# Altium schematic symbol library Power_Management.SchLib: 218 symbols (part 3 of 3)
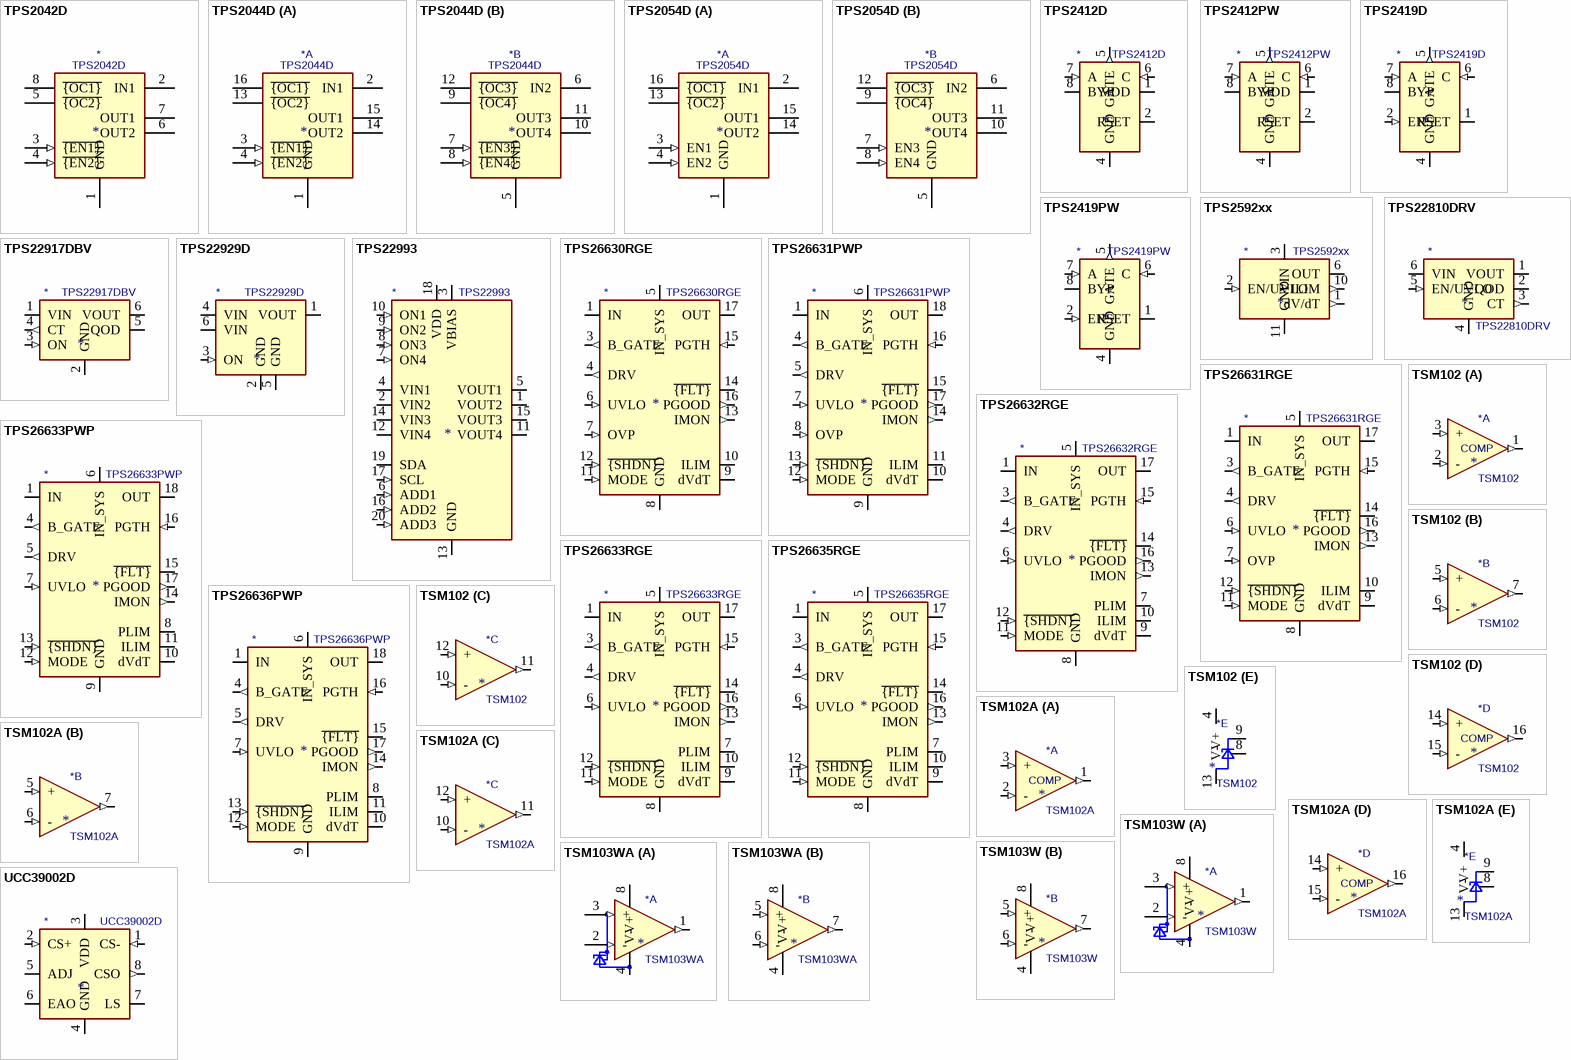
[diagram p7: symbols TPS2042D to UCC39002D]

## TPS26630RGE
designator *  value TPS26630RGE
ki_keywords: efuse protection switch; ki_description: 60V, 6A Power Limiting, Surge Protection Industrial eFuse, Adjustable Overvoltage cut-off, Active Current Limiting, VQFN-24; ki_fp_filters: Texas?RGE0024H*; Footprint: Package_DFN_QFN:Texas_RGE0024H_EP2.7x2.7mm_ThermalVias; Supplier: https://www.ti.com/lit/ds/symlink/tps2663.pdf
footprint Texas_RGE0024H_EP2.7x2.7mm_ThermalVias
pins: 1 IN (power), 2 IN hidden, 3 B_GATE (out), 4 DRV (out), 5 IN_SYS (power), 6 UVLO (in), 7 OVP (in), 8 GND (power), 9 dVdT, 10 ILIM, 11 MODE (in), 12 ~{{SHDN}} (in), 13 IMON (out), 14 ~{{FLT}} (oc), 15 PGTH (in), 16 PGOOD (out), 17 OUT (power), 18 OUT hidden, 19 NC (in) hidden, 20 NC (in) hidden, 21 NC (in) hidden, 22 NC (in) hidden, 23 NC (in) hidden, 24 NC (in) hidden, 25 GND hidden

## TPS26631PWP
designator *  value TPS26631PWP
ki_keywords: efuse protection switch; ki_description: 60V, 6A Power Limiting, Surge Protection Industrial eFuse, Adjustable Overvoltage cut-off, Active Current Limiting with Pulse current support, HTTSOP-20; ki_fp_filters: HTSSOP*1EP*4.4x6.5mm*P0.65mm*; Footprint: Package_SO:HTSSOP-20-1EP_4.4x6.5mm_P0.65mm_EP3.4x6.5mm_Mask2.96x2.96mm_ThermalVias; Supplier: https://www.ti.com/lit/ds/symlink/tps2663.pdf
footprint HTSSOP-20-1EP_4.4x6.5mm_P0.65mm_EP3.4x6.5mm_Mask2.96x2.96mm_ThermalVias
pins: 1 IN (power), 2 IN hidden, 3 IN hidden, 4 B_GATE (out), 5 DRV (out), 6 IN_SYS (power), 7 UVLO (in), 8 OVP (in), 9 GND (power), 10 dVdT, 11 ILIM, 12 MODE (in), 13 ~{{SHDN}} (in), 14 IMON (out), 15 ~{{FLT}} (oc), 16 PGTH (in), 17 PGOOD (out), 18 OUT (power), 19 OUT hidden, 20 OUT hidden, 21 GND hidden

## TPS26631RGE
designator *  value TPS26631RGE
ki_keywords: efuse protection switch; ki_description: 60V, 6A Power Limiting, Surge Protection Industrial eFuse, Adjustable Overvoltage cut-off, Active Current Limiting with Pulse current support, VQFN-24; ki_fp_filters: Texas?RGE0024H*; Footprint: Package_DFN_QFN:Texas_RGE0024H_EP2.7x2.7mm_ThermalVias; Supplier: https://www.ti.com/lit/ds/symlink/tps2663.pdf
footprint Texas_RGE0024H_EP2.7x2.7mm_ThermalVias
pins: 1 IN (power), 2 IN hidden, 3 B_GATE (out), 4 DRV (out), 5 IN_SYS (power), 6 UVLO (in), 7 OVP (in), 8 GND (power), 9 dVdT, 10 ILIM, 11 MODE (in), 12 ~{{SHDN}} (in), 13 IMON (out), 14 ~{{FLT}} (oc), 15 PGTH (in), 16 PGOOD (out), 17 OUT (power), 18 OUT hidden, 19 NC (in) hidden, 20 NC (in) hidden, 21 NC (in) hidden, 22 NC (in) hidden, 23 NC (in) hidden, 24 NC (in) hidden, 25 GND hidden

## TPS26632RGE
designator *  value TPS26632RGE
ki_keywords: efuse protection switch; ki_description: 60V, 6A Power Limiting, Surge Protection Industrial eFuse, 35V fixed Overvoltage clamp, Active Current Limiting, VQFN-24; ki_fp_filters: Texas?RGE0024H*; Footprint: Package_DFN_QFN:Texas_RGE0024H_EP2.7x2.7mm_ThermalVias; Supplier: https://www.ti.com/lit/ds/symlink/tps2663.pdf
footprint Texas_RGE0024H_EP2.7x2.7mm_ThermalVias
pins: 1 IN (power), 2 IN hidden, 3 B_GATE (out), 4 DRV (out), 5 IN_SYS (power), 6 UVLO (in), 7 PLIM, 8 GND (power), 9 dVdT, 10 ILIM, 11 MODE (in), 12 ~{{SHDN}} (in), 13 IMON (out), 14 ~{{FLT}} (oc), 15 PGTH (in), 16 PGOOD (out), 17 OUT (power), 18 OUT hidden, 19 NC (in) hidden, 20 NC (in) hidden, 21 NC (in) hidden, 22 NC (in) hidden, 23 NC (in) hidden, 24 NC (in) hidden, 25 GND hidden

## TPS26633PWP
designator *  value TPS26633PWP
ki_keywords: efuse protection switch; ki_description: 60V, 6A Power Limiting, Surge Protection Industrial eFuse, 35V fixed Overvoltage clamp, Active Current Limiting with Pulse current support, HTTSOP-20; ki_fp_filters: HTSSOP*1EP*4.4x6.5mm*P0.65mm*; Footprint: Package_SO:HTSSOP-20-1EP_4.4x6.5mm_P0.65mm_EP3.4x6.5mm_Mask2.96x2.96mm_ThermalVias; Supplier: https://www.ti.com/lit/ds/symlink/tps2663.pdf
footprint HTSSOP-20-1EP_4.4x6.5mm_P0.65mm_EP3.4x6.5mm_Mask2.96x2.96mm_ThermalVias
pins: 1 IN (power), 2 IN hidden, 3 IN hidden, 4 B_GATE (out), 5 DRV (out), 6 IN_SYS (power), 7 UVLO (in), 8 PLIM, 9 GND (power), 10 dVdT, 11 ILIM, 12 MODE (in), 13 ~{{SHDN}} (in), 14 IMON (out), 15 ~{{FLT}} (oc), 16 PGTH (in), 17 PGOOD (out), 18 OUT (power), 19 OUT hidden, 20 OUT hidden, 21 GND hidden

## TPS26633RGE
designator *  value TPS26633RGE
ki_keywords: efuse protection switch; ki_description: 60V, 6A Power Limiting, Surge Protection Industrial eFuse, 35V fixed Overvoltage clamp, Active Current Limiting with Pulse current support, VQFN-24; ki_fp_filters: Texas?RGE0024H*; Footprint: Package_DFN_QFN:Texas_RGE0024H_EP2.7x2.7mm_ThermalVias; Supplier: https://www.ti.com/lit/ds/symlink/tps2663.pdf
footprint Texas_RGE0024H_EP2.7x2.7mm_ThermalVias
pins: 1 IN (power), 2 IN hidden, 3 B_GATE (out), 4 DRV (out), 5 IN_SYS (power), 6 UVLO (in), 7 PLIM, 8 GND (power), 9 dVdT, 10 ILIM, 11 MODE (in), 12 ~{{SHDN}} (in), 13 IMON (out), 14 ~{{FLT}} (oc), 15 PGTH (in), 16 PGOOD (out), 17 OUT (power), 18 OUT hidden, 19 NC (in) hidden, 20 NC (in) hidden, 21 NC (in) hidden, 22 NC (in) hidden, 23 NC (in) hidden, 24 NC (in) hidden, 25 GND hidden

## TPS26635RGE
designator *  value TPS26635RGE
ki_keywords: efuse protection switch; ki_description: 60V, 6A Power Limiting, Surge Protection Industrial eFuse, 39V fixed Overvoltage clamp, Active Current Limiting with Pulse current support, VQFN-24; ki_fp_filters: Texas?RGE0024H*; Footprint: Package_DFN_QFN:Texas_RGE0024H_EP2.7x2.7mm_ThermalVias; Supplier: https://www.ti.com/lit/ds/symlink/tps2663.pdf
footprint Texas_RGE0024H_EP2.7x2.7mm_ThermalVias
pins: 1 IN (power), 2 IN hidden, 3 B_GATE (out), 4 DRV (out), 5 IN_SYS (power), 6 UVLO (in), 7 PLIM, 8 GND (power), 9 dVdT, 10 ILIM, 11 MODE (in), 12 ~{{SHDN}} (in), 13 IMON (out), 14 ~{{FLT}} (oc), 15 PGTH (in), 16 PGOOD (out), 17 OUT (power), 18 OUT hidden, 19 NC (in) hidden, 20 NC (in) hidden, 21 NC (in) hidden, 22 NC (in) hidden, 23 NC (in) hidden, 24 NC (in) hidden, 25 GND hidden

## TPS26636PWP
designator *  value TPS26636PWP
ki_keywords: efuse protection switch; ki_description: 60V, 6A Power Limiting, Surge Protection Industrial eFuse, 35V fixed Overvoltage clamp, Active Current Limiting with Pulse current support, HTTSOP-20; ki_fp_filters: HTSSOP*1EP*4.4x6.5mm*P0.65mm*; Footprint: Package_SO:HTSSOP-20-1EP_4.4x6.5mm_P0.65mm_EP3.4x6.5mm_Mask2.96x2.96mm_ThermalVias; Supplier: https://www.ti.com/lit/ds/symlink/tps2663.pdf
footprint HTSSOP-20-1EP_4.4x6.5mm_P0.65mm_EP3.4x6.5mm_Mask2.96x2.96mm_ThermalVias
pins: 1 IN (power), 2 IN hidden, 3 IN hidden, 4 B_GATE (out), 5 DRV (out), 6 IN_SYS (power), 7 UVLO (in), 8 PLIM, 9 GND (power), 10 dVdT, 11 ILIM, 12 MODE (in), 13 ~{{SHDN}} (in), 14 IMON (out), 15 ~{{FLT}} (oc), 16 PGTH (in), 17 PGOOD (out), 18 OUT (power), 19 OUT hidden, 20 OUT hidden, 21 GND hidden

## TSM102
designator *  value TSM102
ki_keywords: dual opamp comparator reference; ki_description: Dual Operational Amplifier and Dual Comparator and 1% Voltage Reference, SOIC-16; ki_fp_filters: SOIC*3.9x9.9mm*P1.27mm*; Footprint: Package_SO:SOIC-16_3.9x9.9mm_P1.27mm; Supplier: http://www.st.com/resource/en/datasheet/tsm102.pdf
footprint SOIC-16_3.9x9.9mm_P1.27mm
part A pins: 1 (out), 2 - (in), 3 + (in)
part B pins: 5 + (in), 6 - (in), 7 (out)
part C pins: 10 - (in), 11 (out), 12 + (in)
part D pins: 14 + (in), 15 - (in), 16 (out)
part E pins: 4 V+ (power), 8, 9, 13 V- (power)
part A text: COMP
part D text: COMP

## TSM102A
designator *  value TSM102A
ki_keywords: dual opamp comparator reference; ki_description: Dual Operational Amplifier and Dual Comparator and 0.4% Voltage Reference, SOIC-16; ki_fp_filters: SOIC*3.9x9.9mm*P1.27mm*; Footprint: Package_SO:SOIC-16_3.9x9.9mm_P1.27mm; Supplier: http://www.st.com/resource/en/datasheet/tsm102.pdf
footprint SOIC-16_3.9x9.9mm_P1.27mm
part A pins: 1 (out), 2 - (in), 3 + (in)
part B pins: 5 + (in), 6 - (in), 7 (out)
part C pins: 10 - (in), 11 (out), 12 + (in)
part D pins: 14 + (in), 15 - (in), 16 (out)
part E pins: 4 V+ (power), 8, 9, 13 V- (power)
part A text: COMP
part D text: COMP

## TSM103W
designator *  value TSM103W
ki_keywords: dual opamp reference; ki_description: Dual Operational Amplifier and 2.5V 1% Voltage Reference, SOIC-8; ki_fp_filters: SOIC*3.9x4.9mm*P1.27mm*; Footprint: Package_SO:SOIC-8_3.9x4.9mm_P1.27mm; Supplier: http://www.st.com/resource/en/datasheet/tsm103w.pdf
footprint SOIC-8_3.9x4.9mm_P1.27mm
part A pins: 1 (out), 2 - (in), 3 + (in), 4 V- (power), 8 V+ (power)
part B pins: 4 V- (power), 5 + (in), 6 - (in), 7 (out), 8 V+ (power)

## TSM103WA
designator *  value TSM103WA
ki_keywords: dual opamp reference; ki_description: Dual Operational Amplifier and 2.5V 0.4% Voltage Reference, SOIC-8; ki_fp_filters: SOIC*3.9x4.9mm*P1.27mm*; Footprint: Package_SO:SOIC-8_3.9x4.9mm_P1.27mm; Supplier: http://www.st.com/resource/en/datasheet/tsm103w.pdf
footprint SOIC-8_3.9x4.9mm_P1.27mm
part A pins: 1 (out), 2 - (in), 3 + (in), 4 V- (power), 8 V+ (power)
part B pins: 4 V- (power), 5 + (in), 6 - (in), 7 (out), 8 V+ (power)

## UCC39002D
designator *  value UCC39002D
ki_keywords: load share controller; ki_description: Advanced 8-Pin Load-Share Controller, SOIC-8; ki_fp_filters: SOIC*3.9x4.9mm*P1.27mm*; Footprint: Package_SO:SOIC-8_3.9x4.9mm_P1.27mm; Supplier: http://www.ti.com/lit/ds/slus495i/slus495i.pdf
footprint SOIC-8_3.9x4.9mm_P1.27mm
pins: 1 CS- (in), 2 CS+ (in), 3 VDD (power), 4 GND (power), 5 ADJ (oc), 6 EAO, 7 LS, 8 CSO (out)